# Altium integrated library MIC2026A.IntLib: 1 symbol
Pins are listed as number, name and electrical type; pins without a type are passive.

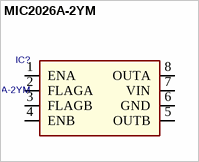
[diagram p0: symbol MIC2026A-2YM]

## MIC2026A-2YM
designator IC?
ID: MIC2026A-2YM; PDF: http://www.micrel.com/_PDF/mic2026a-76a.pdf; BUY_LINK: http://www.digikey.com/product-detail/en/MIC2026A-2YM/576-3734-5-ND/2356435; PRICE: 1.03000
footprint SO8
footprint SO8
pins: 1 ENA, 2 FLAGA, 3 FLAGB, 4 ENB, 5 OUTB, 6 GND, 7 VIN, 8 OUTA